# EAGLE library part PIN-HEADER-3X2 (library wz)
PIN HEADER
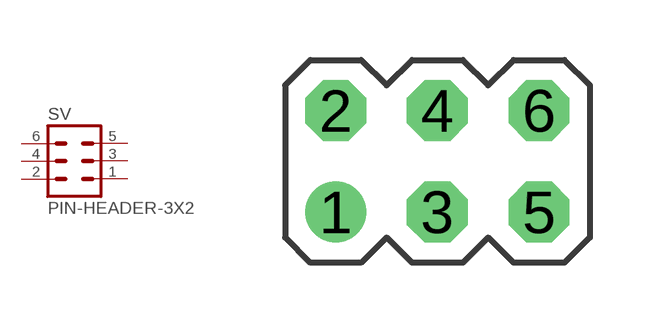
[diagram p3: symbol with the pads of PIN-HEADER-3X2; footprint PIN-HEADER-3X2]

Designator prefix SV

## PIN-HEADER-3X2 (OC_FARNELL: unknown; OC_NEWARK: unknown)  [PIN-HEADER-3X2]
1  1  pas
2  2  pas
3  3  pas
4  4  pas
5  5  pas
6  6  pas

## Footprint PIN-HEADER-3X2 (pad centres in mm)
PIN HEADER
drill 1.016: 1 -2.54,-1.27
drill 1.016 octagon: 2 -2.54,1.27; 3 0,-1.27; 4 0,1.27; 5 2.54,-1.27; 6 2.54,1.27